# EAGLE library part TMUX1104-SIMPLE (library LinnesLab-DigitalIC)
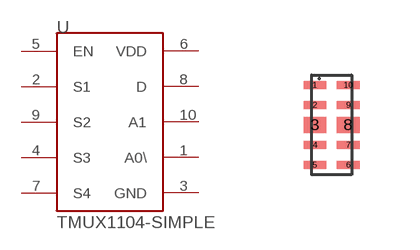
[diagram p23: symbol with the pads of USON; footprint USON]

Designator prefix -

## TMUX1104-SIMPLE  [USON]
1  A0\
2  S1
3  GND
4  S3
5  EN
6  VDD
7  S4
8  D
9  S2
10  A1

## Footprint USON (pad centres in mm)
smd 0.565 x 0.2: 1 -0.417,1; 2 -0.417,0.5; 4 -0.417,-0.5; 5 -0.417,-1; 6 0.417,-1; 7 0.417,-0.5; 9 0.417,0.5; 10 0.417,1
smd 0.565 x 0.4: 3 -0.417,0; 8 0.417,0